# Altium footprint library Ferrite_THT.PcbLib: 1 footprints
Each footprint in its own frame and in the unit in brackets; x right, y up, seen from the top. Pads: shape width x height; smd on the part's side, far side on the other; paste and mask are expansions set on the pad; w line width, h text height; cw(c..) or ccw(c..) is an arc to the next point about the centre after c.
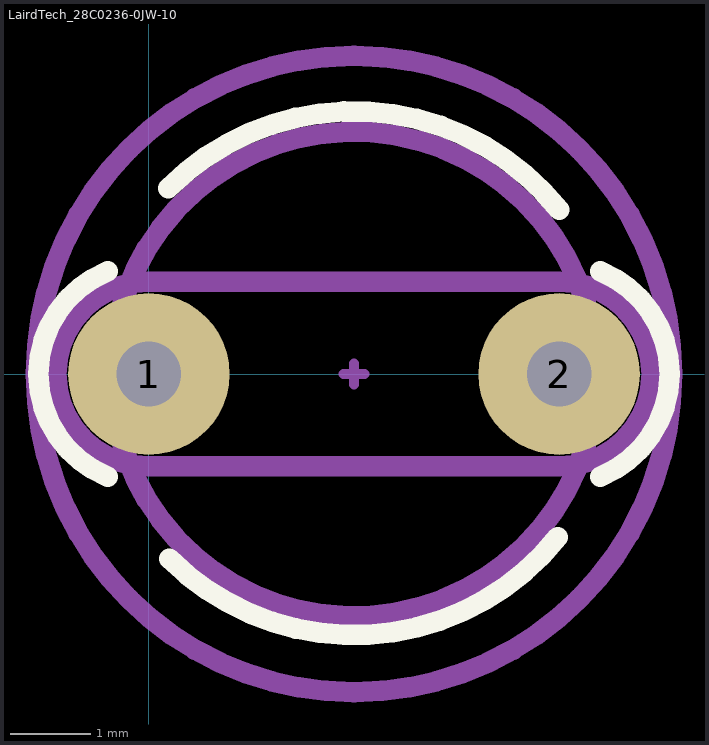
[diagram p0: the footprint, top view; thin cyan lines are the x and y axes]

## LairdTech_28C0236-0JW-10 [mm]
pads (2):
  round 2 hole 0.8: 1(0,0) 2(5.08,0)
F.SilkS:
  lines w0.254: -0.508,-1.27 cw(c0,0) -0.508,1.27 ; 0.24,2.3 cw(c2.54,0) 5.08,2.032 ; 0.254,-2.286 ccw(c2.54,0) 5.064,-2.02 ; 5.588,-1.27 ccw(c5.08,0) 5.588,1.27
Top Component Center:
  lines w0.127: 2.413,0 2.667,0 ; 2.54,-0.127 2.54,0.127
Top Assembly:
  circle w0.254: c2.54,0 r3
  lines w0.254: 0,-1.145 cw(c0,0) 0,1.145 5.08,1.145 cw(c5.08,0) 5.08,-1.145 0,-1.145
  text "'.Designator'" at -1.507,-0.84 h1
Top Courtyard:
  circle w0.254: c2.54,0 r3.94
Top Designator:
  text ".Designator" at -5.142,-0.508 h1.52